# EAGLE library part ST1S40 (library micromouse)
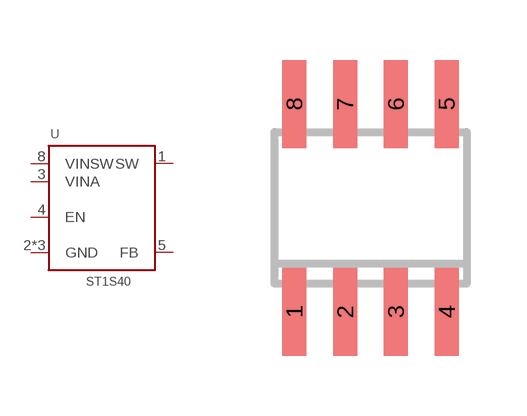
[diagram p10: symbol with the pads of SO8; footprint SO8]

Designator prefix -

## ST1S40  [SO8]
1  SW
2  GND
3  VINA
4  EN
5  FB
6  GND
7  GND
8  VINSW

## Footprint SO8 (pad centres in mm)
8-Lead Small Outline IC (SO-8) Source: http://www.analog.com/UploadedFiles/Data_Sheets/703465986AD8611_2_0.pdf
smd 0.6 x 2.2: 1 -1.905,-2.6; 2 -0.635,-2.6; 3 0.635,-2.6; 4 1.905,-2.6; 5 1.905,2.6; 6 0.635,2.6; 7 -0.635,2.6; 8 -1.905,2.6